# EAGLE library part PINHD-2X3 (library pinhead-new)
PIN HEADER
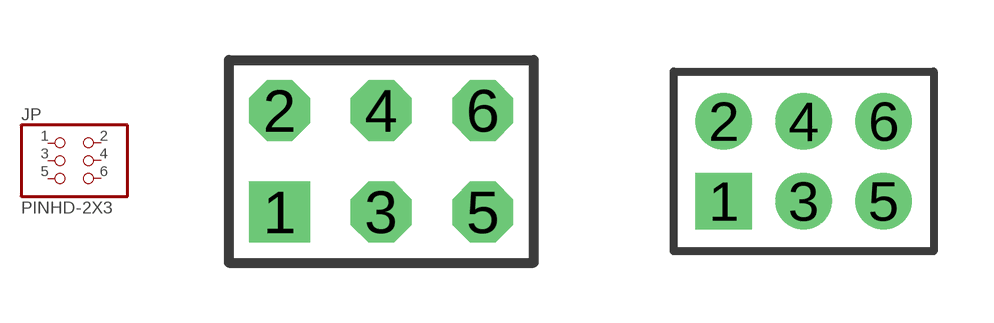
[diagram p26: symbol with the pads of 2X03; footprints 2X03, 2X03M]

Designator prefix JP

## PINHD-2X3  [2X03]
1  1  pas
2  2  pas
3  3  pas
4  4  pas
5  5  pas
6  6  pas

## PINHD-2X3M  [2X03M]
Pads as for 2X03

## Footprint 2X03 (pad centres in mm)
PIN HEADER - 0.1"
drill 1.016 square: 1 -2.54,-1.27
drill 1.016 octagon: 2 -2.54,1.27; 3 0,-1.27; 4 0,1.27; 5 2.54,-1.27; 6 2.54,1.27

## Footprint 2X03M (pad centres in mm)
PIN HEADER - 2MM"
drill 0.914 square: 1 -2,-1
drill 0.914 round: 2 -2,1; 3 0,-1; 4 0,1; 5 2,-1; 6 2,1